# Altium footprint library SOP50P310X90-8N.PcbLib: 1 footprints
Each footprint in its own frame and in the unit in brackets; x right, y up, seen from the top. Pads: shape width x height; smd on the part's side, far side on the other; paste and mask are expansions set on the pad; w line width, h text height; cw(c..) or ccw(c..) is an arc to the next point about the centre after c.
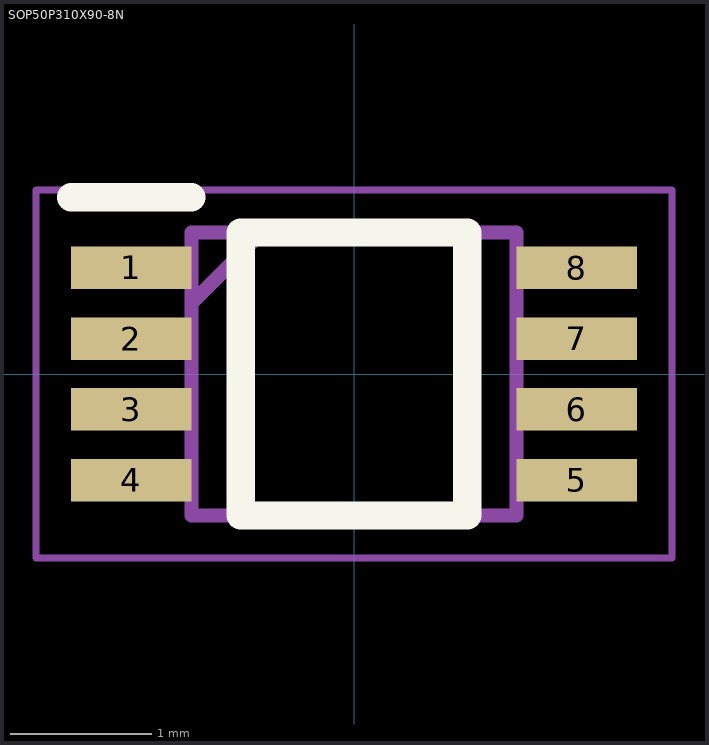
[diagram p0: the footprint, top view; thin cyan lines are the x and y axes]

## SOP50P310X90-8N [mm]
pads (8):
  rect 0.85x0.3 smd: 1(-1.575,0.75) 2(-1.575,0.25) 3(-1.575,-0.25) 4(-1.575,-0.75) 5(1.575,-0.75) 6(1.575,-0.25) 7(1.575,0.25) 8(1.575,0.75)
L26-Silk Screen Top (Multiple PADS layers...):
  lines w0.2: -2,1.25 -1.15,1.25 ; -0.8,-1 -0.8,1 0.8,1 0.8,-1 -0.8,-1
L15 (Multiple PADS layers...):
  lines w0.1: -1.15,0.5 -0.65,1 ; -1.15,-1 -1.15,1 1.15,1 1.15,-1 -1.15,-1
L20:
  lines w0.05: -2.25,-1.3 -2.25,1.3 2.25,1.3 2.25,-1.3 -2.25,-1.3
3D body "PCA9306TDCURQ1.stp": height 0.9, standoff 0, extent -1.55,-1 1.55,1